# Altium schematic symbol library CRYSTALS.SchLib: 6 symbols
Pins are listed as number, name and electrical type; pins without a type are passive.

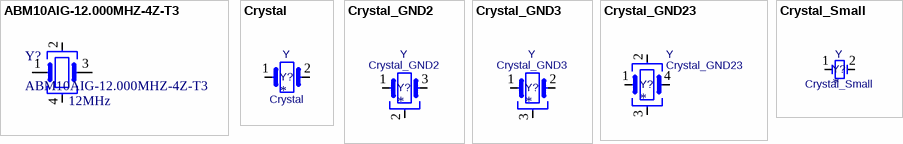
[diagram p0: symbols ABM10AIG-12.000MHZ-4Z-T3 to Crystal_Small]

## ABM10AIG-12.000MHZ-4Z-T3
designator Y?  Frequency: 12MHz
Crystal 12MHz ±30ppm (Tol) ±50ppm (Stability) 10pF FUND 150Ohm Automotive 4-Pin Ultra Mini-CSMD T/R; Manufacturer: Abracon; ESR (Equivalent Series Resistance): 150R; Supplier: Digi-Key; Supplier Part Number: 535-13360-1-ND; Manufacturer Part Number: ABM10AIG-12.000MHZ-4Z-T3; RoHS: Yes; Category: Crystals; Stock: 53441; Pricing: 1=0.72, 10=0.64, 50=0.598, 100=0.5285, 500=0.5007, 1000=0.41725 (USD); Mounting Technology: Surface Mount; Case/Package: SMD/SMT; Min Operating Temperature: -40°C; Max Operating Temperature: 125°C; Packaging: Cut Tape; Load Capacitance: 10pF; Frequency Stability: 50ppm; Frequency Tolerance: 30ppm; Series: ABM10AIG; Length: 0.098inch; Width: 0.079inch; Height: 0.024inch; Ratings: AEC-Q200; RoHS Compliant: Yes; ComponentLink1URL: http://www.mouser.com/ds/2/3/ABM10AIG-783578.pdf?src-supplier=Mouser; ComponentLink1Description: http://www.mouser.com/ds/2/3/ABM10AIG-783578.pdf?src-supplier=Mouser; ComponentLink2URL: https://abracon.com/Support/flyer/AutoGrade-AIG-Crystals.pdf?src-supplier=Digi-Key; ComponentLink2Description: https://abracon.com/Support/flyer/AutoGrade-AIG-Crystals.pdf?src-supplier=Digi-Key
footprint Crystal_GND24
pins: 1, 2, 3, 4

## Crystal
designator Y?  value Crystal  Reference: Y
ki_keywords: quartz ceramic resonator oscillator; ki_description: Two pin crystal; ki_fp_filters: Crystal*; Datasheet: ~
pins: 1, 2

## Crystal_GND2
designator Y?  value Crystal_GND2  Reference: Y
ki_keywords: quartz ceramic resonator oscillator; ki_description: Three pin crystal, GND on pin 2; ki_fp_filters: Crystal*; Datasheet: ~
pins: 1, 2, 3

## Crystal_GND3
designator Y?  value Crystal_GND3  Reference: Y
ki_keywords: quartz ceramic resonator oscillator; ki_description: Three pin crystal, GND on pin 3; ki_fp_filters: Crystal*; Datasheet: ~
pins: 1, 2, 3

## Crystal_GND23
designator Y?  value Crystal_GND23  Reference: Y
ki_keywords: quartz ceramic resonator oscillator; ki_description: Four pin crystal, GND on pins 2 and 3; ki_fp_filters: Crystal*; Datasheet: ~
pins: 1, 2, 3, 4

## Crystal_Small
designator Y?  value Crystal_Small  Reference: Y
ki_keywords: quartz ceramic resonator oscillator; ki_description: Two pin crystal, small symbol; ki_fp_filters: Crystal*; Datasheet: ~
pins: 1, 2